# Altium schematic symbol library Coilcraft_Y8844_AL.SchLib: 1 symbol
Pins are listed as number, name and electrical type; pins without a type are passive.

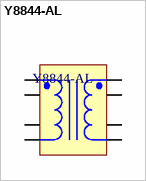
[diagram p0: symbol Y8844-AL]

## Y8844-AL
designator ?
Flyback Transformer, 3.5 W, -40 to 85 degC, 18.3 x 20.1 x 14 mm Package; Manufacturer: Coilcraft; Leakage inductance max (uH): 26; Isolation (Vrms): 1500; DCR max (Ohms): 4.25 (8-5) 0.07 (4-1); Output: 6.5 V, 0.54 A; Inductance +/-10% (mH): 2.9; ComponentLink1Description: Manufacturer URL; ComponentLink2Description: Datasheet; DatasheetVersion: 31/01/2005; ComponentLink3Description: Package Specification; Mounting Technology: Through Hole; ComponentLink3URL: http://www.coilcraft.com/pdf_viewer/showpdf.cfm?f=pdf_store:y8844.pdf; Operating Temperature Range: -40 to 85 degC; ComponentLink1URL: http://www.coilcraft.com/; ComponentLink2URL: http://www.coilcraft.com/pdf_viewer/showpdf.cfm?f=pdf_store:y8844.pdf; Application: 3.5 W; PartNumber: Y8844-AL; PackageDescription: 8-Pin Through Hole Package, Body 18.3 x 20.1 mm; PackageReference: Y8844-AL-8
footprint COIL-Y8844-AL-8_V
pins: 1, 2, 3, 4, 5, 6, 7, 8